# Altium footprint library 40Series.PcbLib: 4 footprints
Each footprint in its own frame and in the unit in brackets; x right, y up, seen from the top. Pads: shape width x height; smd on the part's side, far side on the other; paste and mask are expansions set on the pad; w line width, h text height; cw(c..) or ccw(c..) is an arc to the next point about the centre after c.
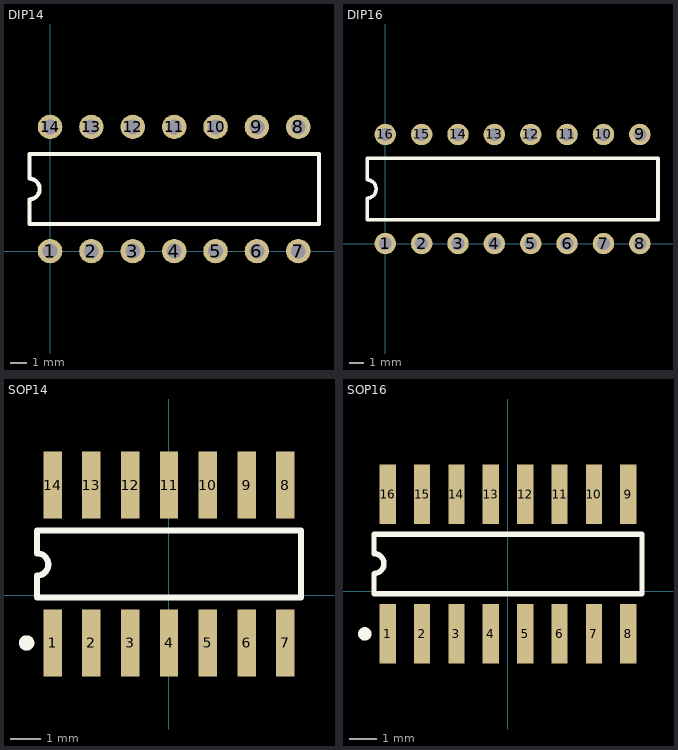
[diagram p0: the footprints below, top view; thin cyan lines are the x and y axes]

## DIP14 [mm]
pads (14):
  round 1.5 hole 0.9: 1(0,0) 2(2.54,0) 3(5.08,0) 4(7.62,0) 5(10.16,0) 6(12.7,0) 7(15.24,0) 8(15.24,7.62) 9(12.7,7.62) 10(10.16,7.62) 11(7.62,7.62) 12(5.08,7.62) 13(2.54,7.62) 14(0,7.62)
Top Overlay:
  lines w0.254: -1.27,1.651 -1.27,3.175 ccw(c-1.27,3.81) -1.27,4.445 -1.27,5.969 16.51,5.969 16.51,1.651 -1.27,1.651

## DIP16 [mm]
pads (16):
  round 1.5 hole 0.9: 1(0,0) 2(2.54,0) 3(5.08,0) 4(7.62,0) 5(10.16,0) 6(12.7,0) 7(15.24,0) 8(17.78,0) 9(17.78,7.62) 10(15.24,7.62) 11(12.7,7.62) 12(10.16,7.62) 13(7.62,7.62) 14(5.08,7.62) 15(2.54,7.62) 16(0,7.62)
Top Overlay:
  lines w0.254: -1.27,1.651 19.05,1.651 19.05,5.969 -1.27,5.969 -1.27,4.445 cw(c-1.27,3.81) -1.27,3.175 -1.27,1.651

## SOP14 [mm]
pads (14):
  rect 0.6x2.2 smd: 1(-3.81,-1.568) 2(-2.54,-1.568) 3(-1.27,-1.568) 4(0,-1.568) 5(1.27,-1.568) 6(2.54,-1.568) 7(3.81,-1.568) 8(3.81,3.6) 9(2.54,3.6) 10(1.27,3.6) 11(0,3.6) 12(-1.27,3.6) 13(-2.54,3.6) 14(-3.81,3.6)
Top Overlay:
  circle w0.25: c-4.66,-1.568 r0.125
  lines w0.2: -4.318,-0.084 -4.318,0.635 ccw(c-4.318,1.002) -4.318,1.368 -4.318,2.116 4.318,2.116 4.318,-0.084 -4.318,-0.084

## SOP16 [mm]
pads (16):
  rect 0.6x2.2 smd: 1(-4.445,-1.568) 2(-3.175,-1.568) 3(-1.905,-1.568) 4(-0.635,-1.568) 5(0.635,-1.568) 6(1.905,-1.568) 7(3.175,-1.568) 8(4.445,-1.568) 9(4.445,3.6) 10(3.175,3.6) 11(1.905,3.6) 12(0.635,3.6) 13(-0.635,3.6) 14(-1.905,3.6) 15(-3.175,3.6) 16(-4.445,3.6)
Top Overlay:
  circle w0.25: c-5.295,-1.568 r0.125
  lines w0.2: -4.953,-0.084 -4.953,0.664 ccw(c-4.953,1.03) -4.953,1.397 -4.953,2.116 4.953,2.116 4.953,-0.084 -4.953,-0.084